# Altium schematic symbol library Schlib1.SchLib: 5 symbols
Pins are listed as number, name and electrical type; pins without a type are passive.

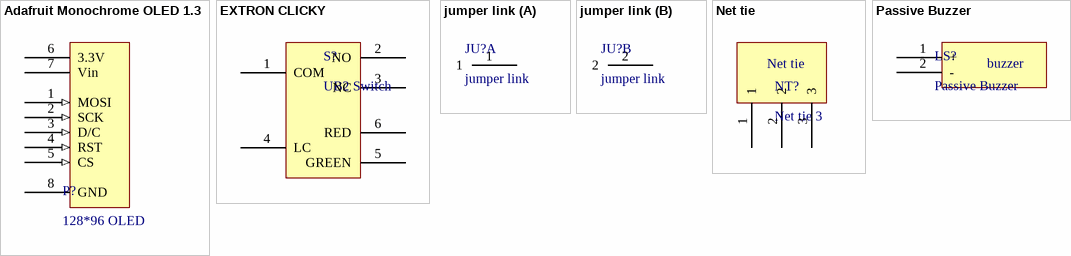
[diagram p0: symbols Adafruit Monochrome OLED 1.3 to Passive Buzzer]

## Adafruit Monochrome OLED 1.3
designator P?, comment 128*96 OLED
pins: 1 MOSI (in), 2 SCK (in), 3 D/C (in), 4 RST (in), 5 CS (in), 6 3.3V (power), 7 Vin (power), 8 GND (power)

## EXTRON CLICKY
designator S?, comment UB2 Switch
footprint EXTRON CLICKY
pins: 1 COM, 2 NO, 3 NC, 4 LC, 5 GREEN, 6 RED

## jumper link
designator JU?
footprint jumper-onepad; pin to pad 2>1
part A pins: 1
part B pins: 2

## Net tie
designator NT?, comment Net tie 3  (net tie, no BOM)
footprint Net tie 3
pins: 1, 2, 3

## Passive Buzzer
designator LS?
footprint CMT-8540S-SMT
pins: 1 +, 2 -
text: buzzer